# EAGLE library part RN-52 (library sdf20)
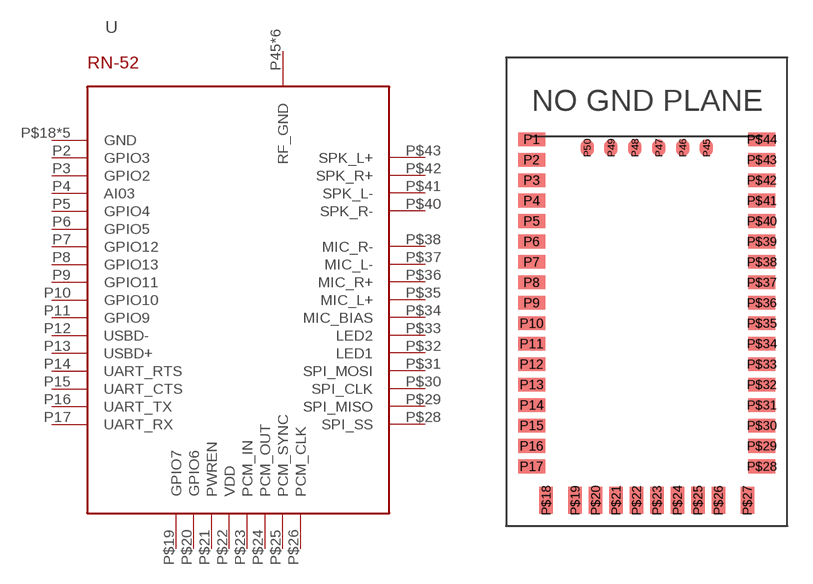
[diagram p0: symbol with the pads of RN-52; footprint RN-52]

Designator prefix -

## RN-52  [RN-52]
P1  GND
P2  GPIO3
P3  GPIO2
P4  AI03
P5  GPIO4
P6  GPIO5
P7  GPIO12
P8  GPIO13
P9  GPIO11
P10  GPIO10
P11  GPIO9
P12  USBD-
P13  USBD+
P14  UART_RTS
P15  UART_CTS
P16  UART_TX
P17  UART_RX
P45  RF_GND
P46  RF_GND
P47  RF_GND
P48  RF_GND
P49  RF_GND
P50  RF_GND
P$18  GND
P$19  GPIO7
P$20  GPIO6
P$21  PWREN
P$22  VDD
P$23  PCM_IN
P$24  PCM_OUT
P$25  PCM_SYNC
P$26  PCM_CLK
P$27  GND
P$28  SPI_SS
P$29  SPI_MISO
P$30  SPI_CLK
P$31  SPI_MOSI
P$32  LED1
P$33  LED2
P$34  MIC_BIAS
P$35  MIC_L+
P$36  MIC_R+
P$37  MIC_L-
P$38  MIC_R-
P$39  GND
P$40  SPK_R-
P$41  SPK_L-
P$42  SPK_R+
P$43  SPK_L+
P$44  GND

## Footprint RN-52 (pad centres in mm)
smd 1.6 x 0.8: P1 0,21.2; P2 0,20; P3 0,18.8; P4 0,17.6; P5 0,16.4; P6 0,15.2; P7 0,14; P8 0,12.8; P9 0,11.6; P10 0,10.4; P11 0,9.2; P12 0,8; P13 0,6.8; P14 0,5.6; P15 0,4.4; P16 0,3.2; P17 0,2; P$28 13.5,2; P$29 13.5,3.2; P$30 13.5,4.4; P$31 13.5,5.6; P$32 13.5,6.8; P$33 13.5,8; P$34 13.5,9.2; P$35 13.5,10.4; P$36 13.5,11.6; P$37 13.5,12.8; P$38 13.5,14; P$39 13.5,15.2; P$40 13.5,16.4; P$41 13.5,17.6; P$42 13.5,18.8; P$43 13.5,20; P$44 13.5,21.2
smd 0.8 x 1: P45 10.25,20.7; P46 8.85,20.7; P47 7.45,20.7; P48 6.05,20.7; P49 4.65,20.7; P50 3.25,20.7
smd 0.8 x 1.6: P$18 0.85,0; P$19 2.55,0; P$20 3.75,0; P$21 4.95,0; P$22 6.15,0; P$23 7.35,0; P$24 8.55,0; P$25 9.75,0; P$26 10.95,0; P$27 12.65,0